# Altium schematic symbol library axsem_production_v1-8.SCHLIB: 25 symbols
Pins are listed as number, name and electrical type; pins without a type are passive.

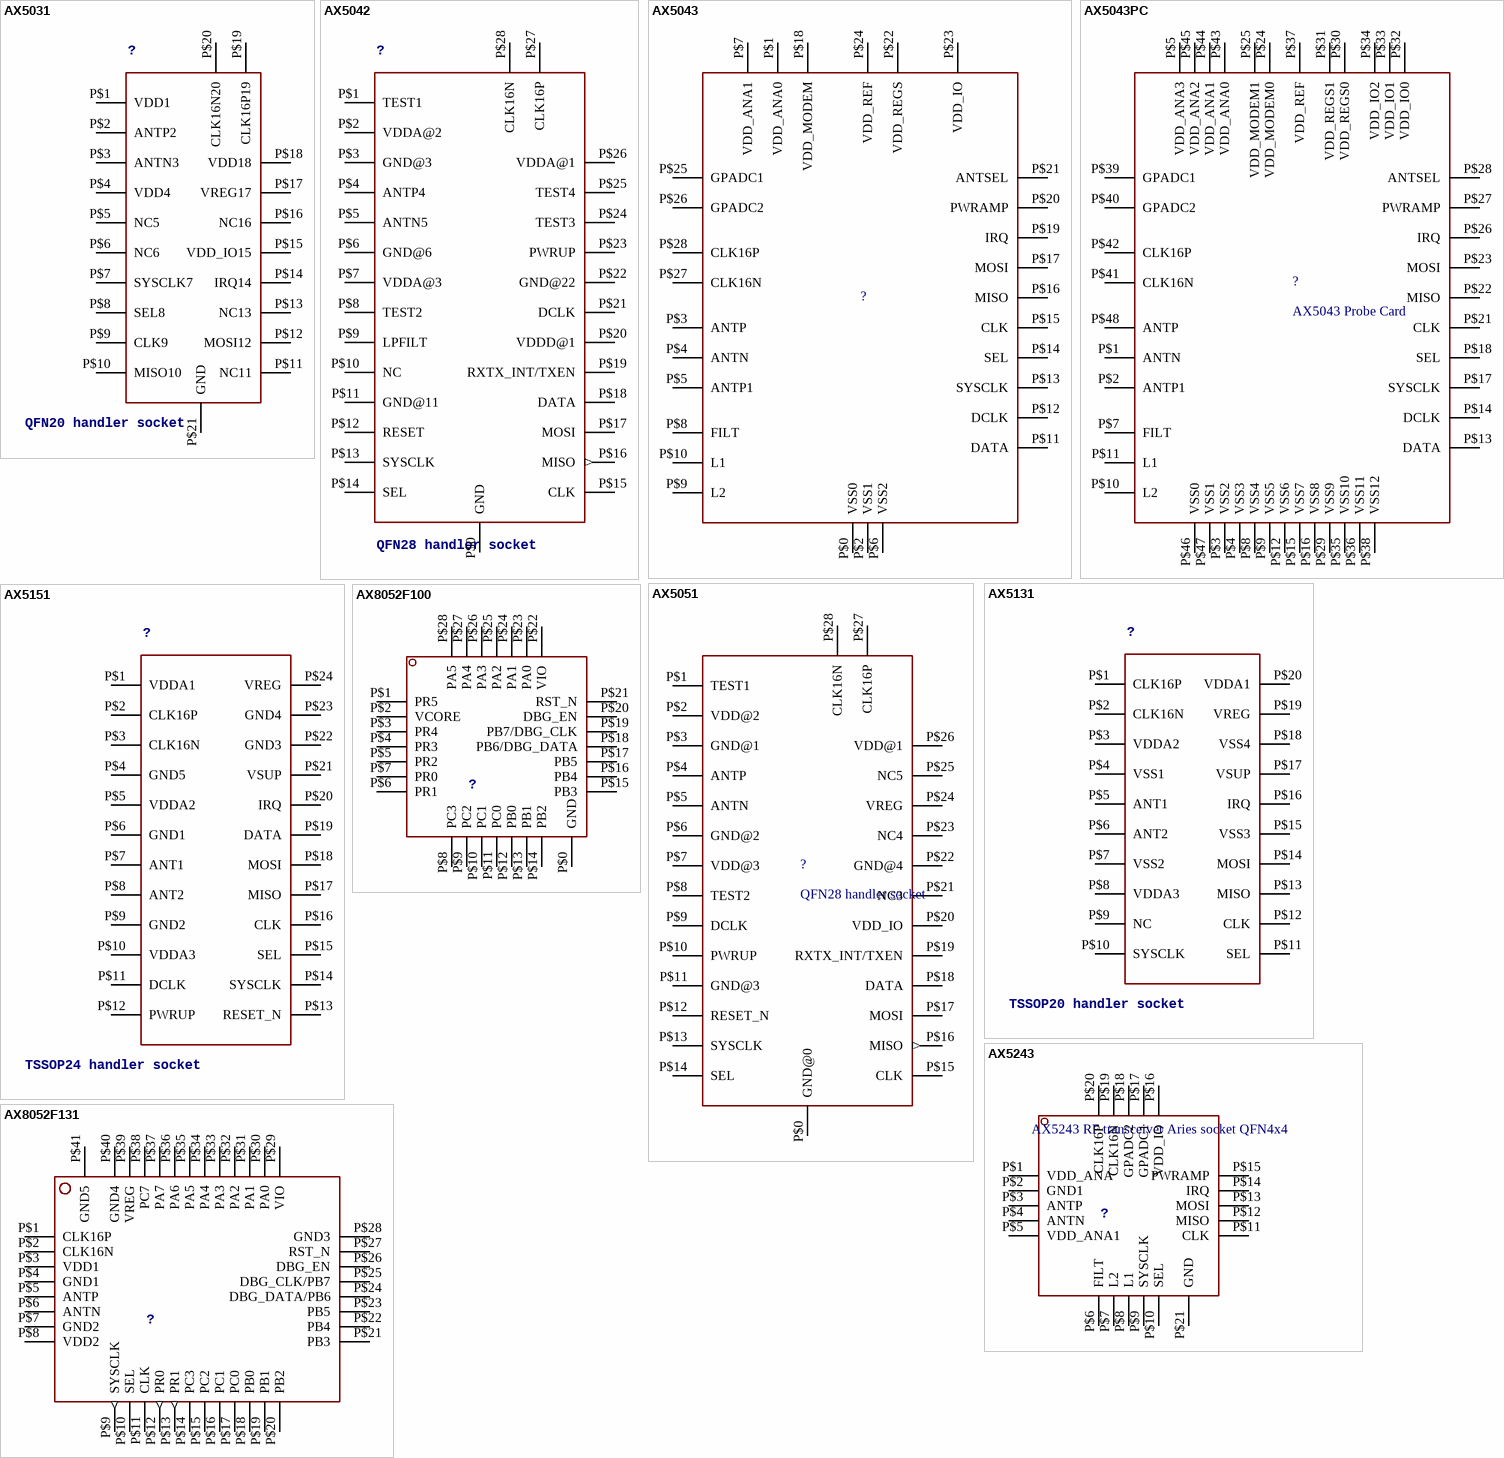
[diagram p0: symbols AX5031 to AX8052F131]

## AX5031
designator ?, comment QFN20 handler socket
footprint QFN20
pins: P$1 VDD1, P$2 ANTP2, P$3 ANTN3, P$4 VDD4, P$5 NC5, P$6 NC6, P$7 SYSCLK7, P$8 SEL8, P$9 CLK9, P$10 MISO10, P$11 NC11, P$12 MOSI12, P$13 NC13, P$14 IRQ14, P$15 VDD_IO15, P$16 NC16, P$17 VREG17, P$18 VDD18, P$19 CLK16P19, P$20 CLK16N20, P$21 GND

## AX5042
designator ?, comment QFN28 handler socket
footprint QFN28
pins: P$0 GND (power), P$1 TEST1, P$2 VDDA@2 (power), P$3 GND@3 (power), P$4 ANTP4, P$5 ANTN5, P$6 GND@6 (power), P$7 VDDA@3 (power), P$8 TEST2, P$9 LPFILT, P$10 NC, P$11 GND@11 (power), P$12 RESET, P$13 SYSCLK, P$14 SEL, P$15 CLK, P$16 MISO (out), P$17 MOSI, P$18 DATA, P$19 RXTX_INT/TXEN, P$20 VDDD@1 (power), P$21 DCLK, P$22 GND@22 (power), P$23 PWRUP, P$24 TEST3, P$25 TEST4, P$26 VDDA@1 (power), P$27 CLK16P, P$28 CLK16N

## AX5043
designator ?
footprint QFN28
pins: P$0 VSS0 (power), P$1 VDD_ANA0 (power), P$2 VSS1 (power), P$3 ANTP, P$4 ANTN, P$5 ANTP1, P$6 VSS2 (power), P$7 VDD_ANA1 (power), P$8 FILT, P$9 L2, P$10 L1, P$11 DATA, P$12 DCLK, P$13 SYSCLK, P$14 SEL, P$15 CLK, P$16 MISO, P$17 MOSI, P$18 VDD_MODEM (power), P$19 IRQ, P$20 PWRAMP, P$21 ANTSEL, P$22 VDD_REGS (power), P$23 VDD_IO (power), P$24 VDD_REF (power), P$25 GPADC1, P$26 GPADC2, P$27 CLK16N, P$28 CLK16P

## AX5043PC
designator ?, comment AX5043 Probe Card
footprint TIPS_PC48
pins: P$1 ANTN, P$2 ANTP1, P$3 VSS2 (power), P$4 VSS3 (power), P$5 VDD_ANA3 (power), P$7 FILT, P$8 VSS4 (power), P$9 VSS5 (power), P$10 L2, P$11 L1, P$12 VSS6 (power), P$13 DATA, P$14 DCLK, P$15 VSS7 (power), P$16 VSS8 (power), P$17 SYSCLK, P$18 SEL, P$21 CLK, P$22 MISO, P$23 MOSI, P$24 VDD_MODEM0 (power), P$25 VDD_MODEM1 (power), P$26 IRQ, P$27 PWRAMP, P$28 ANTSEL, P$29 VSS9 (power), P$30 VDD_REGS0 (power), P$31 VDD_REGS1 (power), P$32 VDD_IO0 (power), P$33 VDD_IO1 (power), P$34 VDD_IO2 (power), P$35 VSS10 (power), P$36 VSS11 (power), P$37 VDD_REF (power), P$38 VSS12 (power), P$39 GPADC1, P$40 GPADC2, P$41 CLK16N, P$42 CLK16P, P$43 VDD_ANA0 (power), P$44 VDD_ANA1 (power), P$45 VDD_ANA2 (power), P$46 VSS0 (power), P$47 VSS1 (power), P$48 ANTP

## AX5051
designator ?, comment QFN28 handler socket
footprint QFN28
pins: P$0 GND@0 (power), P$1 TEST1, P$2 VDD@2 (power), P$3 GND@1, P$4 ANTP, P$5 ANTN, P$6 GND@2, P$7 VDD@3 (power), P$8 TEST2, P$9 DCLK, P$10 PWRUP, P$11 GND@3 (power), P$12 RESET_N, P$13 SYSCLK, P$14 SEL, P$15 CLK, P$16 MISO (out), P$17 MOSI, P$18 DATA, P$19 RXTX_INT/TXEN, P$20 VDD_IO (power), P$21 NC3, P$22 GND@4 (power), P$23 NC4, P$24 VREG (oe), P$25 NC5, P$26 VDD@1 (power), P$27 CLK16P, P$28 CLK16N

## AX5131
designator ?, comment TSSOP20 handler socket
footprint TSSOP20
pins: P$1 CLK16P, P$2 CLK16N, P$3 VDDA2, P$4 VSS1, P$5 ANT1, P$6 ANT2, P$7 VSS2, P$8 VDDA3, P$9 NC, P$10 SYSCLK, P$11 SEL, P$12 CLK, P$13 MISO, P$14 MOSI, P$15 VSS3, P$16 IRQ, P$17 VSUP, P$18 VSS4, P$19 VREG, P$20 VDDA1

## AX5151
designator ?, comment TSSOP24 handler socket
footprint TSSOP24
pins: P$1 VDDA1, P$2 CLK16P, P$3 CLK16N, P$4 GND5, P$5 VDDA2, P$6 GND1, P$7 ANT1, P$8 ANT2, P$9 GND2, P$10 VDDA3, P$11 DCLK, P$12 PWRUP, P$13 RESET_N, P$14 SYSCLK, P$15 SEL, P$16 CLK, P$17 MISO, P$18 MOSI, P$19 DATA, P$20 IRQ, P$21 VSUP, P$22 GND3, P$23 GND4, P$24 VREG

## AX5243
designator ?, comment AX5243 RF transceiver Aries socket QFN4x4
footprint QFN20
pins: P$1 VDD_ANA (power), P$2 GND1 (power), P$3 ANTP, P$4 ANTN, P$5 VDD_ANA1 (power), P$6 FILT, P$7 L2, P$8 L1, P$9 SYSCLK, P$10 SEL, P$11 CLK, P$12 MISO, P$13 MOSI, P$14 IRQ, P$15 PWRAMP, P$16 VDD_IO, P$17 GPADC1, P$18 GPADC2, P$19 CLK16N, P$20 CLK16P, P$21 GND (power)

## AX8052F100
designator ?
footprint QFN28
pins: P$0 GND (power), P$1 PR5, P$2 VCORE (power), P$3 PR4, P$4 PR3, P$5 PR2, P$6 PR1, P$7 PR0, P$8 PC3, P$9 PC2, P$10 PC1, P$11 PC0, P$12 PB0, P$13 PB1, P$14 PB2, P$15 PB3, P$16 PB4, P$17 PB5, P$18 PB6/DBG_DATA, P$19 PB7/DBG_CLK, P$20 DBG_EN, P$21 RST_N, P$22 VIO (power), P$23 PA0, P$24 PA1, P$25 PA2, P$26 PA3, P$27 PA4, P$28 PA5

## AX8052F131
designator ?
footprint QFN40_B
pins: P$1 CLK16P, P$2 CLK16N, P$3 VDD1 (power), P$4 GND1 (power), P$5 ANTP, P$6 ANTN, P$7 GND2 (power), P$8 VDD2 (power), P$9 SYSCLK (out), P$10 SEL, P$11 CLK, P$12 PR0 (out), P$13 PR1 (out), P$14 PC3, P$15 PC2, P$16 PC1, P$17 PC0, P$18 PB0, P$19 PB1, P$20 PB2, P$21 PB3, P$22 PB4, P$23 PB5, P$24 DBG_DATA/PB6, P$25 DBG_CLK/PB7, P$26 DBG_EN, P$27 RST_N, P$28 GND3 (power), P$29 VIO (power), P$30 PA0, P$31 PA1, P$32 PA2, P$33 PA3, P$34 PA4, P$35 PA5, P$36 PA6, P$37 PA7, P$38 PC7, P$39 VREG, P$40 GND4, P$41 GND5

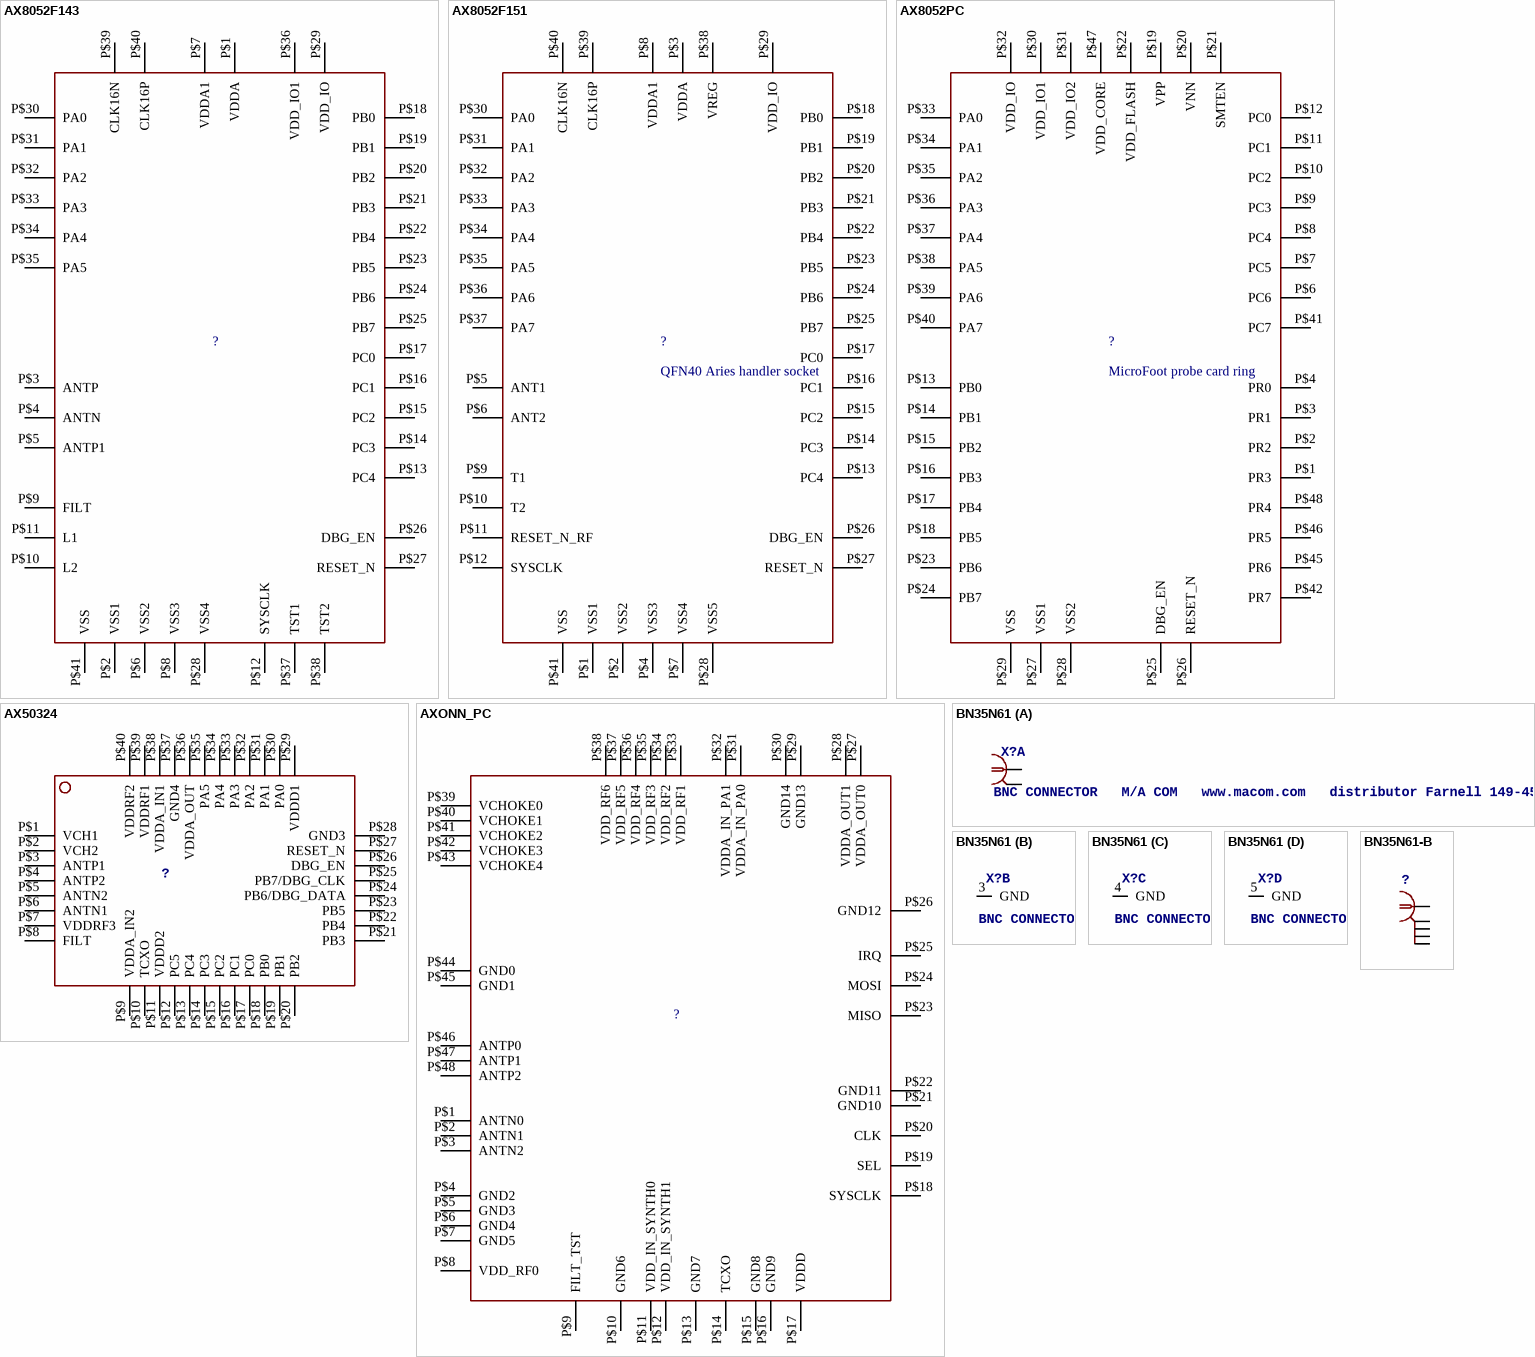
[diagram p1: symbols AX8052F143 to BN35N61-B]

## AX8052F143
designator ?
footprint QFN40
pins: P$1 VDDA (power), P$2 VSS1 (power), P$3 ANTP, P$4 ANTN, P$5 ANTP1, P$6 VSS2 (power), P$7 VDDA1 (power), P$8 VSS3 (power), P$9 FILT, P$10 L2, P$11 L1, P$12 SYSCLK, P$13 PC4, P$14 PC3, P$15 PC2, P$16 PC1, P$17 PC0, P$18 PB0, P$19 PB1, P$20 PB2, P$21 PB3, P$22 PB4, P$23 PB5, P$24 PB6, P$25 PB7, P$26 DBG_EN, P$27 RESET_N, P$28 VSS4 (power), P$29 VDD_IO (power), P$30 PA0, P$31 PA1, P$32 PA2, P$33 PA3, P$34 PA4, P$35 PA5, P$36 VDD_IO1 (power), P$37 TST1, P$38 TST2, P$39 CLK16N, P$40 CLK16P, P$41 VSS (power)

## AX8052F151
designator ?, comment QFN40 Aries handler socket
footprint QFN40
pins: P$1 VSS1 (power), P$2 VSS2 (power), P$3 VDDA (power), P$4 VSS3 (power), P$5 ANT1, P$6 ANT2, P$7 VSS4 (power), P$8 VDDA1 (power), P$9 T1, P$10 T2, P$11 RESET_N_RF, P$12 SYSCLK, P$13 PC4, P$14 PC3, P$15 PC2, P$16 PC1, P$17 PC0, P$18 PB0, P$19 PB1, P$20 PB2, P$21 PB3, P$22 PB4, P$23 PB5, P$24 PB6, P$25 PB7, P$26 DBG_EN, P$27 RESET_N, P$28 VSS5 (power), P$29 VDD_IO (power), P$30 PA0, P$31 PA1, P$32 PA2, P$33 PA3, P$34 PA4, P$35 PA5, P$36 PA6, P$37 PA7, P$38 VREG (power), P$39 CLK16P, P$40 CLK16N, P$41 VSS (power)

## AX8052PC
designator ?, comment MicroFoot probe card ring
footprint TIPS_PC48
pins: P$1 PR3, P$2 PR2, P$3 PR1, P$4 PR0, P$6 PC6, P$7 PC5, P$8 PC4, P$9 PC3, P$10 PC2, P$11 PC1, P$12 PC0, P$13 PB0, P$14 PB1, P$15 PB2, P$16 PB3, P$17 PB4, P$18 PB5, P$19 VPP, P$20 VNN, P$21 SMTEN, P$22 VDD_FLASH (power), P$23 PB6, P$24 PB7, P$25 DBG_EN, P$26 RESET_N, P$27 VSS1 (power), P$28 VSS2 (power), P$29 VSS (power), P$30 VDD_IO1 (power), P$31 VDD_IO2 (power), P$32 VDD_IO (power), P$33 PA0, P$34 PA1, P$35 PA2, P$36 PA3, P$37 PA4, P$38 PA5, P$39 PA6, P$40 PA7, P$41 PC7, P$42 PR7, P$45 PR6, P$46 PR5, P$47 VDD_CORE (power), P$48 PR4

## AX50324
designator ?
footprint QFN40
pins: P$1 VCH1, P$2 VCH2, P$3 ANTP1 (power), P$4 ANTP2, P$5 ANTN2, P$6 ANTN1 (power), P$7 VDDRF3 (power), P$8 FILT, P$9 VDDA_IN2 (power), P$10 TCXO, P$11 VDDD2 (power), P$12 PC5, P$13 PC4, P$14 PC3, P$15 PC2, P$16 PC1, P$17 PC0, P$18 PB0, P$19 PB1, P$20 PB2, P$21 PB3, P$22 PB4, P$23 PB5, P$24 PB6/DBG_DATA, P$25 PB7/DBG_CLK, P$26 DBG_EN, P$27 RESET_N, P$28 GND3 (power), P$29 VDDD1 (power), P$30 PA0, P$31 PA1, P$32 PA2, P$33 PA3, P$34 PA4, P$35 PA5, P$36 VDDA_OUT (power), P$37 GND4 (power), P$38 VDDA_IN1 (power), P$39 VDDRF1 (power), P$40 VDDRF2 (power)

## AXONN_PC
designator ?
footprint TIPS_PC48
pins: P$1 ANTN0, P$2 ANTN1, P$3 ANTN2, P$4 GND2 (power), P$5 GND3 (power), P$6 GND4 (power), P$7 GND5 (power), P$8 VDD_RF0 (power), P$9 FILT_TST, P$10 GND6 (power), P$11 VDD_IN_SYNTH0 (power), P$12 VDD_IN_SYNTH1 (power), P$13 GND7 (power), P$14 TCXO, P$15 GND8 (power), P$16 GND9 (power), P$17 VDDD (power), P$18 SYSCLK, P$19 SEL, P$20 CLK, P$21 GND10 (power), P$22 GND11 (power), P$23 MISO, P$24 MOSI, P$25 IRQ, P$26 GND12 (power), P$27 VDDA_OUT0 (power), P$28 VDDA_OUT1 (power), P$29 GND13 (power), P$30 GND14 (power), P$31 VDDA_IN_PA0 (power), P$32 VDDA_IN_PA1 (power), P$33 VDD_RF1 (power), P$34 VDD_RF2 (power), P$35 VDD_RF3 (power), P$36 VDD_RF4 (power), P$37 VDD_RF5 (power), P$38 VDD_RF6 (power), P$39 VCHOKE0 (power), P$40 VCHOKE1 (power), P$41 VCHOKE2 (power), P$42 VCHOKE3 (power), P$43 VCHOKE4 (power), P$44 GND0 (power), P$45 GND1 (power), P$46 ANTP0, P$47 ANTP1, P$48 ANTP2

## BN35N61
designator X?, comment BNC CONNECTOR   M/A COM   www.macom.com   distributor Farnell 149-452
footprint B35N61
part A pins: 1, 2 GND (power)
part B pins: 3 GND (power)
part C pins: 4 GND (power)
part D pins: 5 GND (power)

## BN35N61-B
designator ?
footprint B35N61
pins: 1, 2 P$1, 3 P$2, 4 P$3, 5 P$4

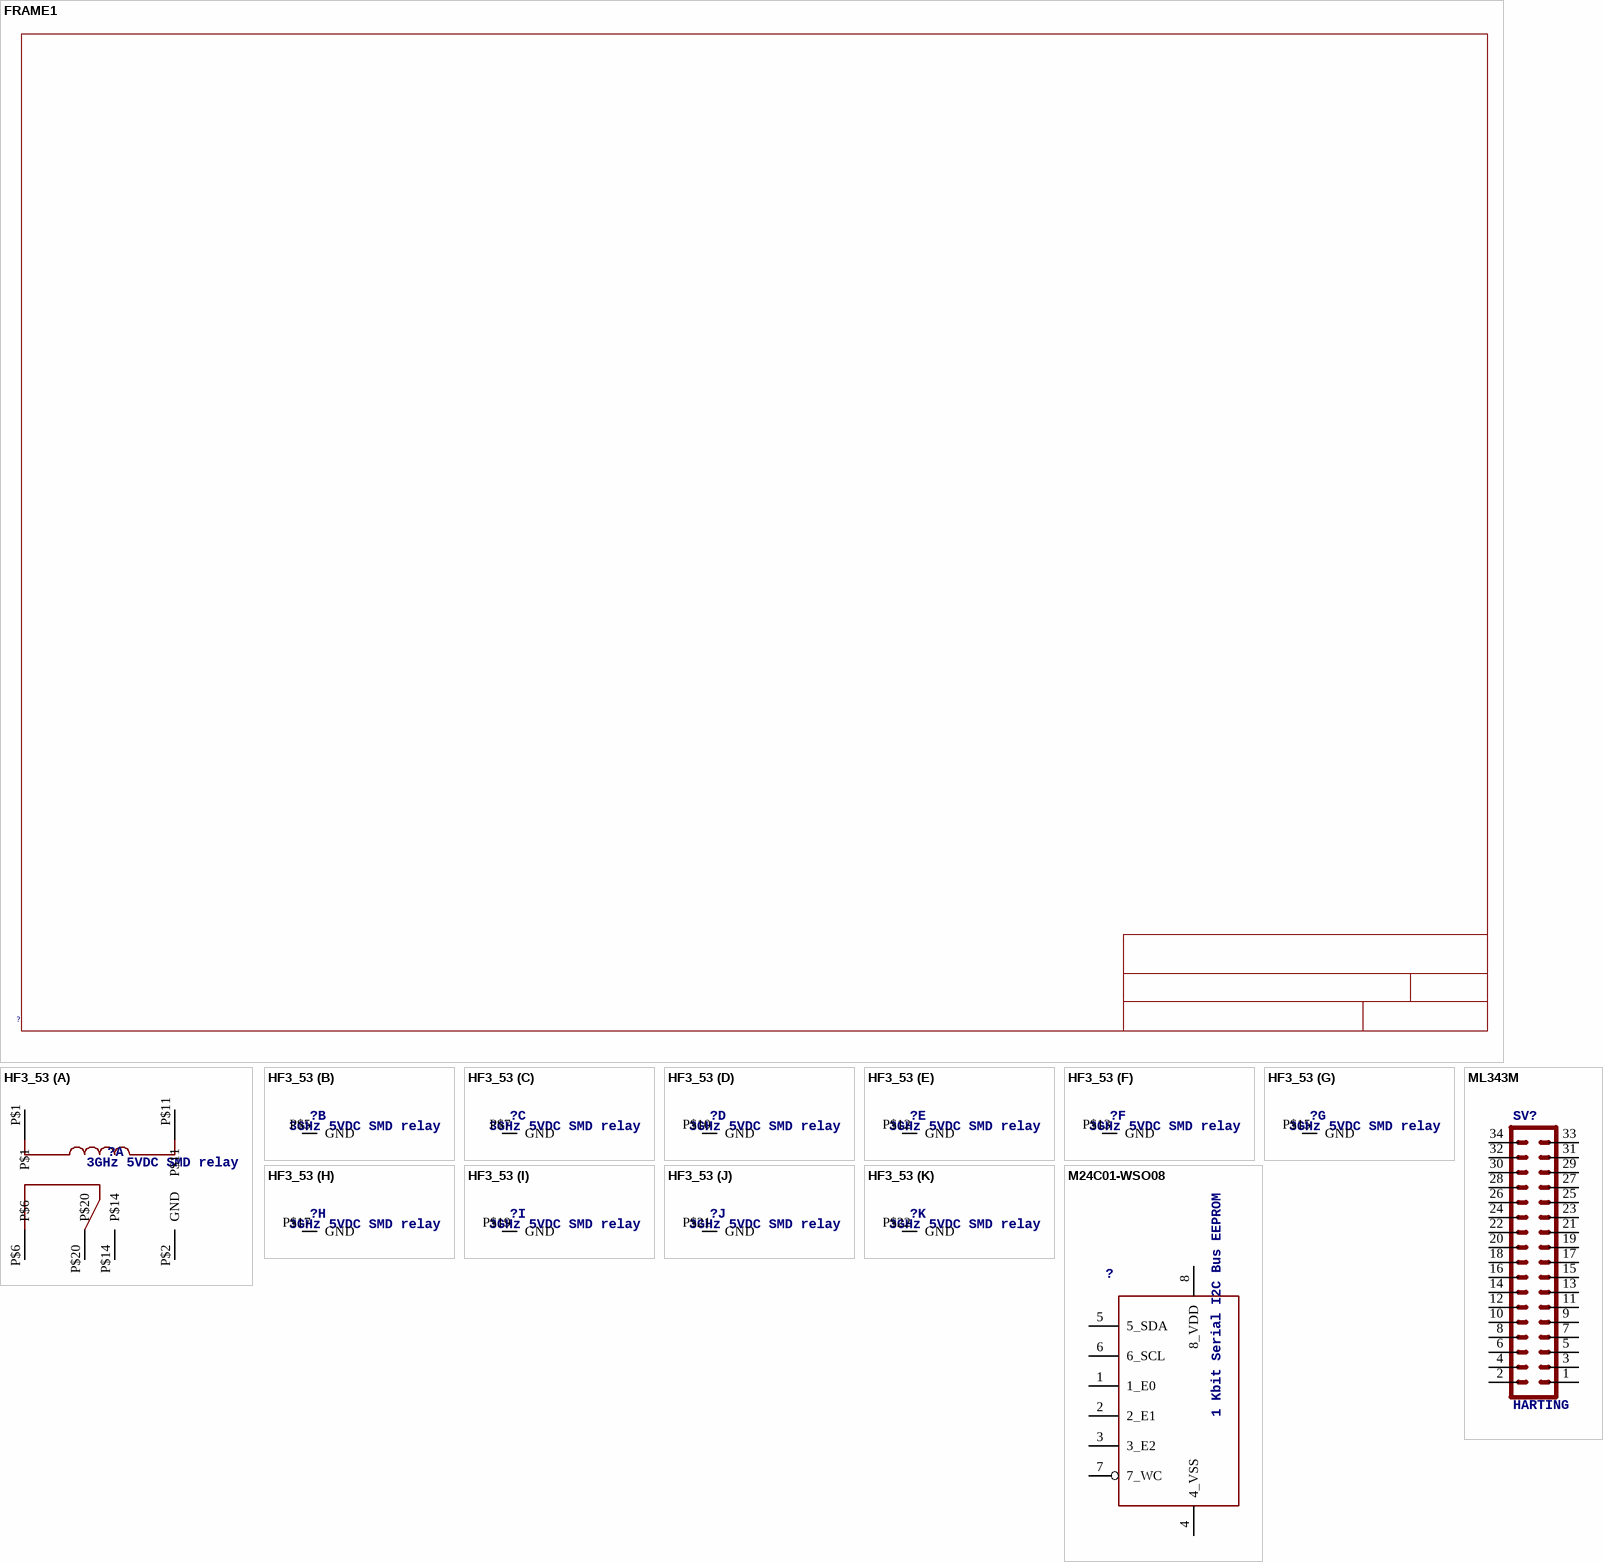
[diagram p2: symbols FRAME1 to ML343M]

## FRAME1
designator ?
footprint FRAME1

## HF3_53
designator ?, comment 3GHz 5VDC SMD relay
footprint HF3_53
part A pins: P$1, P$2 GND (power), P$6, P$11, P$14, P$20
part B pins: P$5 GND (power)
part C pins: P$7 GND (power)
part D pins: P$10 GND (power)
part E pins: P$12 GND (power)
part F pins: P$13 GND (power)
part G pins: P$15 GND (power)
part H pins: P$17 GND (power)
part I pins: P$19 GND (power)
part J pins: P$21 GND (power)
part K pins: P$22 GND (power)

## M24C01-WSO08
designator ?, comment 1 Kbit Serial I2C Bus EEPROM
footprint SO08
pins: 1 1_E0, 2 2_E1, 3 3_E2, 4 4_VSS, 5 5_SDA, 6 6_SCL, 7 7_WC, 8 8_VDD

## ML343M
designator SV?, comment HARTING
footprint 3M_34
pins: 1, 2, 3, 4, 5, 6, 7, 8, 9, 10, 11, 12, 13, 14, 15, 16, 17, 18, 19, 20, 21, 22, 23, 24, 25, 26, 27, 28, 29, 30, 31, 32, 33, 34

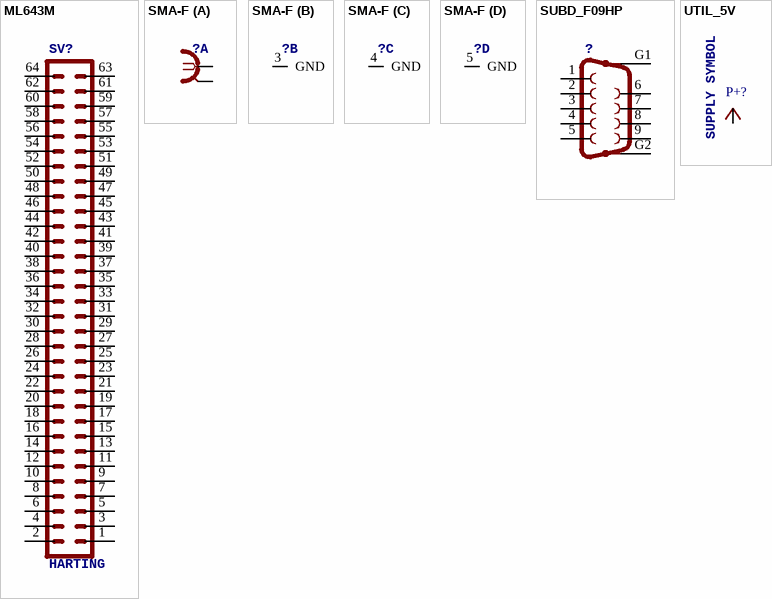
[diagram p3: symbols ML643M to UTIL_5V]

## ML643M
designator SV?, comment HARTING
footprint 3M_64
pins: 1, 2, 3, 4, 5, 6, 7, 8, 9, 10, 11, 12, 13, 14, 15, 16, 17, 18, 19, 20, 21, 22, 23, 24, 25, 26, 27, 28, 29, 30, 31, 32, 33, 34, 35, 36, 37, 38, 39, 40, 41, 42, 43, 44, 45, 46, 47, 48, 49, 50, 51, 52, 53, 54, 55, 56, 57, 58, 59, 60, 61, 62, 63, 64

## SMA-F
designator ?
footprint BU-SMA-V
part A pins: 1, 2 GND@0 (power)
part B pins: 3 GND (power)
part C pins: 4 GND (power)
part D pins: 5 GND (power)

## SUBD_F09HP
designator ?
footprint SUBD_F09HP
pins: 1, 2, 3, 4, 5, 6, 7, 8, 9, G1, G2

## UTIL_5V
designator P+?, comment SUPPLY SYMBOL
pins: ?1 UTIL_5V (oe)